# EAGLE library part TPA3106D1 (library Audio-Power-amlifier V.2.0)
40-W MONO CLASS-D AUDIO POWER AMPLIFIER
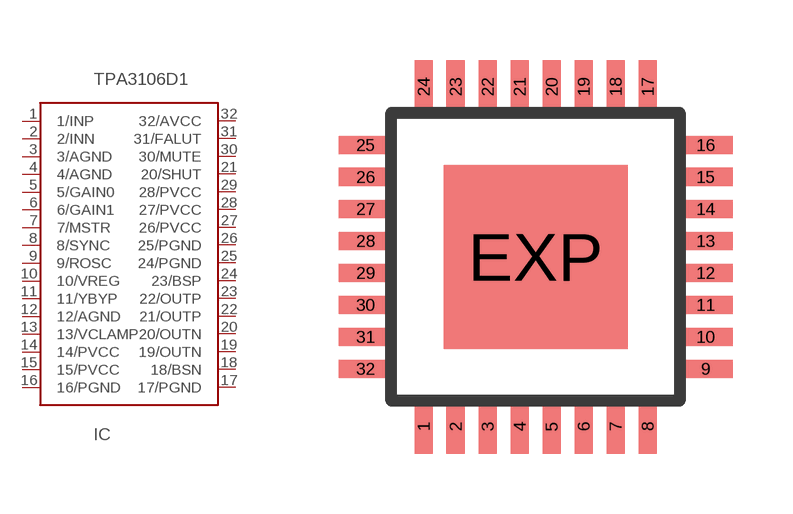
[diagram p178: symbol with the pads of HLQFP-32; footprint HLQFP-32]

Designator prefix IC

## TPA3106D1  [HLQFP-32]
1  1/INP  in
2  2/INN  in
3  3/AGND  pwr
4  4/AGND  pwr
5  5/GAIN0  in
6  6/GAIN1  in
7  7/MSTR  in
8  8/SYNC
9  9/ROSC
10  10/VREG  out
11  11/YBYP  out
12  12/AGND  pwr
13  13/VCLAMP  pwr
14  14/PVCC  pwr
15  15/PVCC  pwr
16  16/PGND  pwr
17  17/PGND  pwr
18  18/BSN
19  19/OUTN  out
20  20/OUTN  out
21  20/SHUT  in
22  21/OUTP  out
23  22/OUTP  out
24  23/BSP
25  24/PGND  pwr
26  25/PGND  pwr
27  26/PVCC  pwr
28  27/PVCC  pwr
29  28/PVCC  pwr
30  30/MUTE  in
31  31/FALUT  out
32  32/AVCC  pwr

## Footprint HLQFP-32 (pad centres in mm)
smd 0.45 x 1.35: 1 -2.8,-4.25; 2 -2,-4.25; 3 -1.2,-4.25; 4 -0.4,-4.25; 5 0.4,-4.25; 6 1.2,-4.25; 7 2,-4.25; 8 2.8,-4.25; 17 2.8,4.25; 18 2,4.25; 19 1.2,4.25; 20 0.4,4.25; 21 -0.4,4.25; 22 -1.2,4.25; 23 -2,4.25; 24 -2.8,4.25
smd 1.35 x 0.45: 9 4.25,-2.8; 10 4.25,-2; 11 4.25,-1.2; 12 4.25,-0.4; 13 4.25,0.4; 14 4.25,1.2; 15 4.25,2; 16 4.25,2.8; 25 -4.25,2.8; 26 -4.25,2; 27 -4.25,1.2; 28 -4.25,0.4; 29 -4.25,-0.4; 30 -4.25,-1.2; 31 -4.25,-2; 32 -4.25,-2.8
smd 4.6 x 4.6: EXP 0,0